# EAGLE library part BUS_PIRATE_HEADER (library gipi)
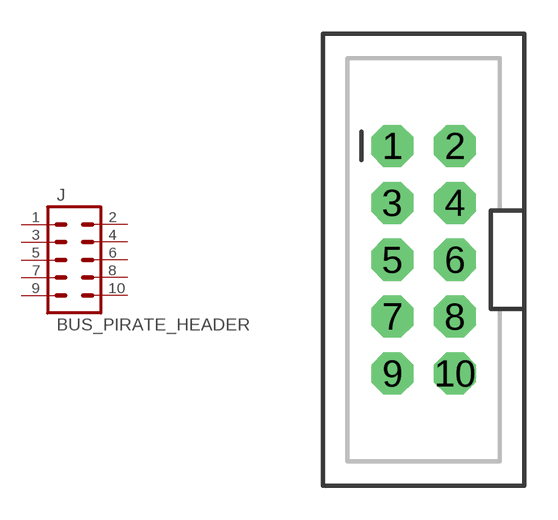
[diagram p2: symbol with the pads of HEADER_BUS_PIRATE; footprint HEADER_BUS_PIRATE]

Designator prefix J

## BUS_PIRATE_HEADER  [HEADER_BUS_PIRATE]
1  1  pas
2  2  pas
3  3  pas
4  4  pas
5  5  pas
6  6  pas
7  7  pas
8  8  pas
9  9  pas
10  10  pas

## Footprint HEADER_BUS_PIRATE (pad centres in mm)
drill 1.016 pad 1.88 octagon: 1 -1.397,5.08; 2 1.397,5.08; 3 -1.397,2.54; 4 1.397,2.54; 5 -1.397,0; 6 1.397,0; 7 -1.397,-2.54; 8 1.397,-2.54; 9 -1.397,-5.08; 10 1.397,-5.08